# Altium schematic symbol library MyLibrary.SchLib: 320 symbols (part 5 of 7)
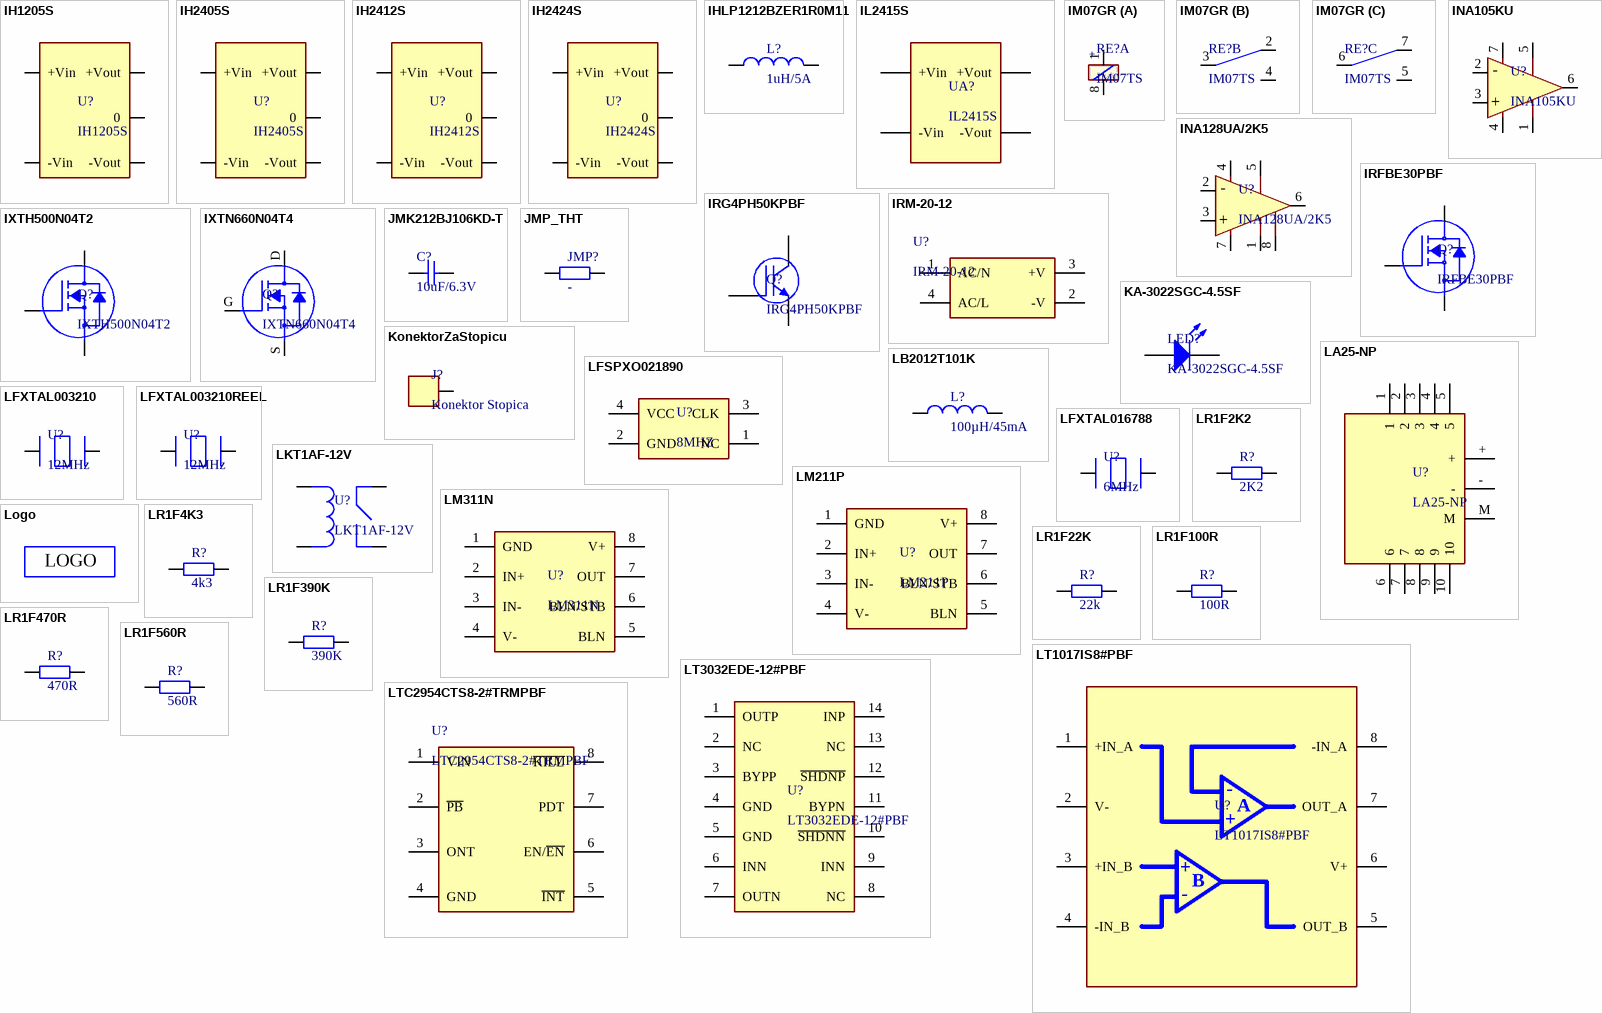
[diagram p12: symbols IH1205S to LTC2954CTS8-2#TRMPBF]

## INA105KU
designator U?
IC OP AMP INA105 SMD; Manufacturer: Texas Instruments; Bandwidth: 1MHz; Number of Channels: 1; Max Supply Voltage: 36V; Min Supply Voltage: 10V; Nominal Supply Current: 1.5mA; Dual Supply Voltage: 15V; Min Dual Supply Voltage: 5V; Max Dual Supply Voltage: 18V; Max Input Voltage: 20V; Min Input Voltage: -20V; Common Mode Rejection Ratio: 72dB; Slew Rate: 3V/µs; Input Offset Voltage (Vos): 500uV; Voltage Gain: 0dB; Input Resistance: 50kR; Output Current per Channel: 20mA; Unity Gain Bandwidth Product: 50kHz; Supplier 1: Silica; Manufacturer Part Number: INA105KU; Stock 1: 442; Pricing 1: 1=8.38, 10=7.568, 100=6.2656, 500=5.456, 1000=4.752 (USD); Case/Package: D; Number of Pins: 8; Weight: 0.002677oz; Min Operating Temperature: -40°C; Max Operating Temperature: 85°C; Packaging: Rail/Tube; Package Quantity: 75; Number of Elements: 1; Number of Circuits: 1; Quiescent Current: 1.5mA; -3db Bandwidth: 1MHz; Operating Supply Current: 1.5mA; Number of Amplifiers: 1; Termination: SMD/SMT; Length: 4.9mm; Height: 1.58mm; Width: 3.91mm; Radiation Hardening: No; Lead Free: Lead Free; REACH SVHC: No SVHC; ComponentLink1URL: https://datasheet.ciiva.com/15128/getdatasheetpartid-186912-15128450.pdf; ComponentLink1Description: Datasheet; Supplier Part Number 1: INA105KU; Type: SMD; Package: SOIC127P600X175-8N
footprint SOIC8 (SOIC, 8-Leads, Body 4,90x3,90mm, Pitch 1,27mm, IPC Medium Density)
pins: 1 REF, 2 VIN-, 3 Vin+, 4 -V, 5 SENSE, 6 Vout, 7 +V, 8 NIC hidden
text: -; +

## INA128UA/2K5
designator U?
IC OP AMP INA128 SMD; Manufacturer: Texas Instruments; Nominal Supply Current: 750uA; Number of Channels: 1; Bandwidth: 1.3MHz; Quiescent Current: 700uA; Slew Rate: 4V/µs; Min Dual Supply Voltage: 2.25V; Max Dual Supply Voltage: 18V; Dual Supply Voltage: 15V; Common Mode Rejection Ratio: 110dB; Max Supply Voltage: 36V; Min Supply Voltage: 4.5V; Input Offset Voltage (Vos): 125uV; Input Bias Current: 10nA; Input Voltage Noise Density: 8nV/sqrt Hz; Number of Elements: 3; Voltage Gain: 80dB; Input Resistance: 100GR; Supplier 1: EBV Elektronik; Manufacturer Part Number: INA128UA/2K5; Stock 1: 10466; Pricing 1: 1=7.36, 10=6.65, 100=5.5057, 500=4.7943, 1000=4.1757 (USD); Case/Package: D; Number of Pins: 8; Weight: 0.002677oz; Min Operating Temperature: -40°C; Max Operating Temperature: 125°C; Packaging: Tape and Reel; Number of Circuits: 1; Package Quantity: 2500; Gain Bandwidth Product: 1.3MHz; Number of Amplifiers: 3; Radiation Hardening: No; Lead Free: Lead Free; REACH SVHC: No SVHC; ComponentLink1URL: https://datasheet.ciiva.com/15128/getdatasheetpartid-223550-15128534.pdf; ComponentLink1Description: Datasheet; Supplier Part Number 1: INA128UA/2K5; Type: SMD; Package: SOIC127P600X175-8N
footprint SOIC8 (SOIC, 8-Leads, Body 4,90x3,90mm, Pitch 1,27mm, IPC Medium Density)
pins: 1 RG, 2 VIN-, 3 Vin+, 4 -V, 5 REF, 6 Vout, 7 +V, 8 RG
text: -; +

## IRFBE30PBF
designator Q?
MOSFET N-CH 800V 4.1A TO-220AB; Manufacturer: Vishay Siliconix; FET Type: N-Channel; Current - Continuous Drain (Id) @ 25°C: 4.1A (Tc); Drive Voltage (Max Rds On,  Min Rds On): 10V; Vgs(th) (Max) @ Id: 4V @ 250µA; Gate Charge (Qg) (Max) @ Vgs: 78nC @ 10V; Input Capacitance (Ciss) (Max) @ Vds: 1300pF @ 25V; Vgs (Max): ±20V; Power Dissipation (Max): 125W (Tc); Rds On (Max) @ Id, Vgs: 3 Ohm @ 2.5A, 10V; Type: THT; Supplier 1: Future Electronics; Manufacturer Part Number: IRFBE30PBF; RoHS: RoHS Compliant; Category: Discrete Semiconductor Products; Stock 1: 8407; Pricing 1: 1=1.67, 10=1.498, 25=1.4136, 100=1.2043, 250=1.1308, 500=0.98946, 1000=0.81983, 2500=0.76329, 5000=0.73502 (USD); Packaging: Tube; Part Status: Active; Technology: MOSFET (Metal Oxide); Drain to Source Voltage (Vdss): 800V; FET Feature: -; Operating Temperature: -55°C ~ 150°C (TJ); Mounting Type: Through Hole; Supplier Device Package: TO-220AB; Package: TO-220-3; ComponentLink1URL: http://www.vishay.com/docs/91118/91118.pdf; ComponentLink1Description: Datasheet; Supplier Part Number 1: IRFBE30PBF
footprint TO220AB-GDS
pins: D, G, S

## IRG4PH50KPBF
designator Q?
IGBT 1200V 45A 200W TO-247; Manufacturer: International Rectifier; Collector Emitter Voltage (VCEO): 1.2kV; Element Configuration: Single; Collector Emitter Saturation Voltage: 3.5V; Rise Time: 29ns; Type: THT; Supplier 1: Arrow; Manufacturer Part Number: IRG4PH50KPBF; Stock 1: 439; Pricing 1: 1=6.22970, 10=5.21610, 25=4.70970, 100=4.45050 (USD); RoHS: Yes; Mount: Through Hole; Case/Package: TO-247; Number of Pins: 3; Min Operating Temperature: -55°C; Max Operating Temperature: 150°C; Max Collector Current: 45A; Max Power Dissipation: 200W; Packaging: Rail/Tube; Power Dissipation: 200W; Collector Emitter Breakdown Voltage: 1.2kV; Package Quantity: 25; Termination: Through Hole; Voltage Rating (DC): 1.2kV; Current Rating: 45A; Radiation Hardening: No; REACH SVHC: No SVHC; Lead Free: Lead Free; ComponentLink1URL: https://datasheet.ciiva.com/1250/irg4ph50k-1250256.pdf?src-supplier=Newark; ComponentLink1Description: Datasheet; Supplier Part Number 1: IRG4PH50KPBF
footprint TO-247
pins: 1 G, 2 C, 3 E

## IRM-20-12
designator U?
POWER Modules 12V 1.8A 21.6W 85-264Vin Encap PS; Manufacturer: Mean Well; Number of Outputs: 1; Efficiency: 84%; Approvals: UL; Supplier 1: Mouser; Manufacturer Part Number: IRM-20-12; RoHS: Yes; Stock 1: 1935; Pricing 1: 1 = 9.13000, 10 = 8.70000, 20 = 8.54000, 50 = 8.40000, 100 = 8.26000, 200 = 8.12000, 500 = 7.98000, 1000 = 7.98000, 10000 = 7.98000 (USD); Mount: Through Hole; Number of Pins: 4; Weight: 2.081164oz; Min Operating Temperature: -30°C; Max Operating Temperature: 70°C; Packaging: Bulk; Package Quantity: 240; Output Power: 21.6W; Voltage - Output 1: 12V; Current - Output 1: 1.8A; Output Current: 1.8A; Max Output Power: 21.6W; Length: 53mm; Height: 24mm; Width: 28mm; Lead Free: Lead Free; ComponentLink1URL: https://datasheet.ciiva.com/24117/irm-20-spec-267992-24117345.pdf?src-supplier=Mouser; ComponentLink1Description: Datasheet; Supplier Part Number 1: 709-IRM20-12; Type: THT
footprint IRM2012
pins: 1 AC/N, 2 -V, 3 +V, 4 AC/L

## IXTH500N04T2
designator Q?
MOSFET N-CH 40V 500A TO-247; Manufacturer: IXYS; FET Type: MOSFET N-Channel, Metal Oxide; FET Feature: Standard; Rds On (Max) @ Id, Vgs: 1.6 mOhm @ 100A, 10V; Vgs(th) (Max) @ Id: 3.5V @ 250µA; Gate Charge (Qg) @ Vgs: 405nC @ 10V; Input Capacitance (Ciss) @ Vds: 25000pF @ 25V; Power - Max: 1000W; Type: THT; Supplier 1: Mouser; Manufacturer Part Number: IXTH500N04T2; Stock 1: 81; Pricing 1: 1=11.02, 10=9.96, 50=9.5, 100=8.25, 1000=6.26, 10000=6.26 (USD); Standard Package: 30; Category: Discrete Semiconductor Products; Family: FETs - Single; Series: TrenchT2™; Drain to Source Voltage (Vdss): 40V; Current - Continuous Drain (Id) @ 25° C: 500A; Mounting Type: Through Hole; Package: TO-247-3; Supplier Device Package: TO-247; Packaging: Tube; ComponentLink1URL: https://datasheet.ciiva.com/13056/ds100218ixth-tt500n04t2-76827-13056222.pdf; ComponentLink1Description: Datasheet; Supplier Part Number 1: 747-IXTH500N04T2
footprint TO-247
pins: 1 G, 2 D, 3 S

## IXTN660N04T4
designator Q?
MOSFET 40V/660A TRENCHT4 PWR SOT; Manufacturer: IXYS; Drain to Source Voltage (Vdss): 40V; Continuous Drain Current (ID): 660A; Rds On Max: 0.85mR; Input Capacitance: 44nF; Max Power Dissipation: 1.04kW; Type: THT; Supplier 1: Digi-Key; Manufacturer Part Number: IXTN660N04T4; Stock 1: 0; Pricing 1: 1=21.3, 10=19.36, 100=16.456 (USD); Mount: Chassis Mount; Case/Package: SOT-227-4; Min Operating Temperature: -55°C; Max Operating Temperature: 175°C; Packaging: Bulk; ComponentLink1Description: Datasheet; Supplier Part Number 1: IXTN660N04T4-ND; Package: SOT227
footprint SOT227 (Isotop package)
pins: D, G, S

## JMK212BJ106KD-T
designator C?, comment 10uF/6.3V
CAP 10UF 0805 6.3V; Manufacturer: Taiyo Yuden; Manufacturer Part Number: JMK212BJ106KD-T; Tolerance: 10%; Dielectric: X5R; Type: SMD; Supplier 1: Mouser; Stock 1: 61344; Pricing 1: 1=0.17000, 10=0.07400, 50=0.07400, 100=0.05000, 500=0.04000, 1000=0.03300, 4000=0.03100, 8000=0.02400, 10000=0.02400, 12000=0.02100, 24000=0.02000 (USD); RoHS: Yes; Mount: Surface Mount; Case/Package: 0805; Number of Pins: 2; Case Code (Metric): 2012; Case Code (Imperial): 0805; Min Operating Temperature: -55°C; Max Operating Temperature: 85°C; Capacitance: 10uF; Packaging: Tape and Reel; Voltage Rating (DC): 6.3V; Voltage Rating: 6.3V; Package Quantity: 1; Termination: SMD/SMT; Composition: Ceramic; Length: 2mm; Height: 0.85mm; Width: 0.049inch; Depth: 1.25mm; Thickness: 0.037inch; Radiation Hardening: No; Lead Free: Lead Free; REACH SVHC: No SVHC; ComponentLink1URL: https://datasheet.ciiva.com/15921/mlcc-all-e-15921049.pdf?src-supplier=Onlinecomponents.com; ComponentLink1Description: Datasheet; Supplier Part Number 1: 963-JMK212BJ106KD-T; Package: CAPC2012X88N
footprint C0805
footprint CAPC2012X09N (Chip Capacitor, 2-Leads, Body 2.00x1.25mm, IPC Medium Density)
pins: 1, 2 20

## JMP_THT
designator JMP?, comment -  (no BOM)
Jumper THT; .PCBChecked: BP; Category: Jumpers; Type: THT; .SCHChecked: BP
footprint JUMPER_THT_100MILS
pins: 1, 2

## KA-3022SGC-4.5SF
designator LED?
LED GREEN SMD 20 mA 2.2 V; Manufacturer: Kingbright; Lens Style: Diffused; Viewing Angle: 90°; Luminous Intensity: 20mcd; Forward Voltage: 2.2V; Wavelength: 565nm; Dominant Wavelength: 568nm; Forward Current: 20mA; Number of LEDs: 1; Supplier 1: Farnell; Manufacturer Part Number: KA-3022SGC-4.5SF; RoHS: Yes; Pricing 1: 5 = 0.39000, 10 = 0.33500, 25 = 0.32300, 50 = 0.31300, 100 = 0.30200, 150 = 0.27600, 200 = 0.25800, 250 = 0.24000 (GBP); Mount: Surface Mount; Case/Package: SMD/SMT; Number of Pins: 2; Color: Green; Min Operating Temperature: -40°C; Max Operating Temperature: 85°C; Packaging: Cut Tape; Termination: SMD/SMT; Width: 3mm; Radiation Hardening: No; REACH SVHC: No SVHC; ComponentLink1URL: https://datasheet.ciiva.com/8060/309730-8060294.pdf?src-supplier=Element14; ComponentLink1Description: Datasheet; Supplier Part Number 1: 1142615; Type: SMD; Package: SOD4522X165N
footprint LED3022X15N
pins: A, C

## KonektorZaStopicu
designator J?, comment Konektor Stopica
Type: THT
footprint KonektorZaStopicuFootprint
pins: 1

## LA25-NP
designator U?
CURRENT TRANSDUCER 25A THT; Manufacturer: LEM; Frequency: 150kHz; Number of Channels: 1; Response Time: 1us; Max Supply Current: 10mA; Polarity: Bidirectional; Accuracy: 0.5%; Linearity: 0.2%; Operating Supply Voltage: 15V; Secondary Current: 25mA; Min Supply Voltage (DC): 14.25V; Max Supply Voltage (DC): 15.75V; Supplier 1: Accilator; Manufacturer Part Number: LA25-NP; Stock 1: 1120; Pricing 1: 1=24.75, 5=23.626, 10=21.375, 25=19.6876, 50=17.4376, 100=16.875, 500=15.75 (USD); Mount: Through Hole,PCB; Package: DIP; Min Operating Temperature: -40°C; Max Operating Temperature: 85°C; Packaging: Bulk; Current Sensing: 25A; Package Quantity: 15; Nominal Supply Current: 25A; Lead Free: Lead Free; REACH SVHC: No SVHC; Flammability Rating: UL94 V-0; ComponentLink1URL: https://datasheet.ciiva.com/1309/1683365-1309928.pdf; ComponentLink1Description: Datasheet; Supplier Part Number 1: LA25-NP; Type: THT
footprint LA25-NP
pins: 1, 2, 3, 4, 5, 6, 7, 8, 9, 10, +, -, M

## LB2012T101K
designator L?, comment 100µH/45mA
IND 100UH 45MA 7 OHM SMD; Manufacturer: Taiyo Yuden; Manufacturer Part Number: LB2012T101K; Product Training Modules: EMC Applications; Catalog Drawings: LB(C,R)2012 Series Side LB(C,R)2012 Series Top; Featured Product: LB Series Inductors; EDA / CAD Models: Download from Accelerated Designs; Inductance: 100µH; Tolerance: ±10%; Shielding: Unshielded; DC Resistance (DCR): 7 Ohm; Frequency - Self Resonant: 8MHz; Frequency - Test: 796kHz; Online Catalog: LB Series; Other Names: 587-2488-2 / LB2012T101K-ND / LQ LB  2012T101K; Supplier 1: Farnell; Stock 1: 14357; Pricing 1: 5=0.157, 50=0.119, 250=0.0807, 500=0.0655, 1500=0.0471, 3000=0.0466, 15000=0.0353, 30000=0.0346 (EUR); Standard Package: 3,000; Category: Inductors, Coils, Chokes; Family: Fixed Inductors; Series: LB; Packaging: Tape & Reel (TR); Type: SMD; Current Rating: 45mA; Operating Temperature: -40°C ~ 105°C; Mounting Type: Surface Mount; Package: INDC2012X145N; Size / Dimension: 0.079" L x 0.049" W (2.00mm x 1.25mm); Height - Seated (Max): 0.057" (1.45mm); ComponentLink1URL: https://datasheet.ciiva.com/15986/667lb2012t101k-15986564.pdf; ComponentLink1Description: Datasheet; Supplier Part Number 1: 1653741
footprint L0805
pins: 1, 2

## LFSPXO021890
designator U?, comment 8MHZ
OSC 8MHZ 50PF SMD; Manufacturer: IQD FREQUENCY PRODUCTS; Manufacturer Part Number: LFSPXO021890; Frequency Nom: 8; Frequency Stability + / -: 50; Oscillator Case: SMD, 7mm x 5; Supply Voltage Nom: 3.3; Product Range: CFPS-73 Series; Oscillator Output Compatibility: HCMOS; SVHC: No SVHC (12-Jan-2017); Frequency Stability: ± 50; Supply Voltage Max: 3.63; Supply Voltage Min: 2.97; .PCBChecked: BP; Supplier 1: Farnell; RoHS: YES; Stock 1: 526; Pricing 1: 1=0.932, 50=0.729, 100=0.644, 250=0.627, 500=0.61, 1000=0.491, 5000=0.481, 10000=0.471 (GBP); Operating Temperature Min: -40; Operating Temperature Max: 85; Frequency: 8; Load Capacitance: 50; Oscillator Mounting: SMD; ComponentLink1URL: http://www.farnell.com/datasheets/1852995.pdf; ComponentLink1Description: Datasheet; Supplier Part Number 1: 2449427; Category: Oscillators; Package: DFN720X520X140-4N; Type: SMD; .SCHChecked: BP
footprint DFN4 (DFN, 4-Leads, Body 5,20x7,20mm, Pitch 4,20mm, IPC Medium Density)
pins: 1 NC, 2 GND, 3 CLK, 4 VCC

## LFXTAL003210
designator U?, comment 12MHz
CRYSTAL 12MHZ SMD; Manufacturer: IQD; Manufacturer Part Number: LFXTAL003210; Frequency: 12; Frequency tolerance: ±30 ppm; Resonant operating mode: Parallel; .PCBChecked: BP; Package: XTAL1140X380X430; Operating temperature: -10...+60 °C; ComponentLink1URL: https://datasheet.ciiva.com/46401/1658661-46401756.pdf; ComponentLink1Description: Datasheet; Package: 2-Pin HC-49-4H-SMX; Type: SMD; .SCHChecked: BP; Supplier 1: Farnell; Supplier Part Number 1: 9713344
footprint CRYSTAL
pins: 1, 2

## LFXTAL003210REEL
designator U?, comment 12MHz
CRYSTAL 12MHZ SMD; Manufacturer: IQD FREQUENCY PRODUCTS; Manufacturer Part Number: LFXTAL003210REEL; Frequency Nom: 12; Crystal Case: SMD, 11.4mm x 4.9; Frequency Stability + / -: 50; Load Capacitance: 16; Frequency Tolerance + / -: 30; Product Range: HC-49/4; SVHC: No SVHC (12-Jan-2017; .PCBChecked: BP; Supplier 1: Farnell; RoHS: YES; Pricing 1: 1000=0.0929, 5000=0.091, 10000=0.0892 (GBP); Operating Temperature Min: -10; Operating Temperature Max: 60; ComponentLink1URL: http://www.farnell.com/datasheets/2175898.pdf; ComponentLink1Description: Datasheet; Supplier Part Number 1: 2675770; Category: Crystals; Package: XTAL1140X380X430; Type: SMD; .SCHChecked: BP
footprint CRYSTAL
pins: 1, 2

## LFXTAL016788
designator U?, comment 6MHz
CRYSTAL 6.00MHZ SMD; Manufacturer: IQD FREQUENCY PRODUCTS; Manufacturer Part Number: LFXTAL016788; Frequency Nom: 6; Crystal Case: SMD, 11.4mm x 4.9; Frequency Stability + / -: 50; Load Capacitance: 30; Product Range: HC-49/4; SVHC: No SVHC (12-Jan-2017); Accuracy: ± 30; Frequency Stability: ± 50; No. of Pins: 2; .PCBChecked: BP; Supplier 1: Mouser; RoHS: YES; Stock 1: 7496; Pricing 1: 1=0.214, 5=0.211, 10=0.186, 20=0.168, 40=0.153, 100=0.127, 500=0.116, 1000=0.0929 (GBP); Frequency Tolerance + / -: 30; Operating Temperature Min: -10; Operating Temperature Max: 60; Crystal Mounting Type: SMD; Frequency: 6; Frequency Accuracy + @: 30; Frequency Accuracy - @: 30; Operating Temperature Range: -10°C to +70; Output Frequency: 6; Packaging: Cut Tape; Temperature Stability + @: 50; Temperature Stability - @: 50; Temperature Stabilty: ± 50; ComponentLink1URL: http://www.farnell.com/datasheets/2048129.pdf; ComponentLink1Description: Datasheet; Supplier Part Number 1: 449-LFXTAL016788REEL; Category: Crystals; Package: XTAL1140X380X430; Type: SMD; .SCHChecked: BP
footprint CRYSTAL
pins: 1, 2

## LKT1AF-12V
designator U?
RELAY GEN PURPOSE SPST 5A 12V; Manufacturer: Panasonic; Max Current Rating: 8A; Max Voltage Rating (AC): 277V; Coil Current: 20.8mA; Operate Time: 15ms; Release Time: 5ms; Coil Power: 250mW; Coil Resistance: 576R; Relay Type: General Purpose; Coil Type: Non-Latching; Supplier 1: Digi-Key; Manufacturer Part Number: LKT1AF-12V; RoHS: Yes; Stock 1: 3442; Pricing 1: 1 = 1.73000, 10 = 1.62000, 25 = 1.44000, 50 = 1.36800, 100 = 1.29600, 300 = 1.15200, 500 = 1.08000, 1000 = 1.00800, 5000 = 0.97200 (USD); Mount: Through Hole; Number of Pins: 4; Weight: 12g; Contact Material: Tin; Min Operating Temperature: -40°C; Max Operating Temperature: 70°C; Package Quantity: 100; Packaging: Case; Contact Current Rating: 5A; Throw Configuration: SPST; Termination: PC Pin; Coil Voltage (DC): 12V; Power Consumption: 250mW; Voltage Rating (AC): 277V; Length: 24mm; Depth: 11mm; Lead Free: Lead Free; ComponentLink1URL: https://datasheet.ciiva.com/30252/mech-eng-lkt-30252944.pdf?src-supplier=Onlinecomponents.com; ComponentLink1Description: Datasheet; Supplier Part Number 1: 255-3350-ND; Type: THT
footprint RELAY_LKT1AF
pins: 1, 2, 3, 4

## LM211P
designator U?
COMPARATOR 8-DIP; Manufacturer: Texas Instruments; Output Type: DTL, MOS, Open-Collector, Open-Emitter, RTL, TTL; Voltage - Supply, Single/Dual (±): 3.5 V ~ 30 V, ±1.75 V ~ 15 V; Voltage - Input Offset (Max): 3mV @ ±15V; Current - Input Bias (Max): 0.1µA @ ±15V; Current - Output (Typ): 50mA; Current - Quiescent (Max): 6mA; Supplier 1: RS Components; Manufacturer Part Number: LM211P; RoHS: RoHS Compliant; Category: Integrated Circuits (ICs); Stock 1: 2628; Pricing 1: 1=0.53, 10=0.45, 100=0.336, 500=0.264, 1000=0.204 (USD); Packaging: Tube; Part Status: Active; Type: THT; CMRR, PSRR (Typ): -; Propagation Delay (Max): -; Hysteresis: -; Operating Temperature: -40°C ~ 85°C; Package: 8-DIP (0.300", 7.62mm); Mounting Type: Through Hole; Supplier Device Package: 8-PDIP; ComponentLink1URL: http://www.ti.com/lit/ds/symlink/lm211.pdf; ComponentLink1Description: Datasheet; Supplier Part Number 1: 709-2043
footprint DIP8
pins: 1 GND, 2 IN+, 3 IN-, 4 V-, 5 BLN, 6 BLN/STB, 7 OUT, 8 V+

## LM311N
designator U?
VOLT COMPARATOR, DIP8, 311; Manufacturer: STMICROELECTRONICS; Comparator Type: General Purpose; No. of Comparators: 1; Response Time: 200; Supply Voltage Range: 5V to ± 15; Comparator Case Style: DIP; No. of Pins: 8; IC Output Type: DTL, MOS, RTL, TTL; SVHC: No SVHC (17-Dec-2015); Base Number: 311; Comparator Features: Voltage Comparator; Device Marking: LM311; IC Temperature Range: Commercial; Supply Current: 5.1; Supply Voltage Max: 30; Supply Voltage Min: 5V<!--FANDB--><div class="features-and-benefits-container"><div class="features-and-benefits-desc-container"><span class="features-and-benefits-container-desc">Voltage Comparator with Strobe and Low Input Currents</span></div><div class="features-and-benefits-description"><span class="features-benefits-value">The LM311N is a voltage comparator that has a low input current. It is also designed to operate over a wide range of supply voltages, from standard ±15V operational amplifier supplies down to the single +5V supply used for IC logic. Their output is compatible with RTL-DTL and TTL as well as MOS circuits and can switch voltages up to +50V at output currents as high as 50; Supplier 1: Farnell; Manufacturer Part Number: LM311N; RoHS: YES; Pricing 1: 1=0.225, 10=0.156, 100=0.127, 250=0.109, 500=0.093 (GBP); Operating Temperature Min: 0; Operating Temperature Max: 70; Packaging: Each; Product Range: -; Automotive Qualification Standard: -; MSL: -; Amplifier Case Style: DIP; Logic Function Number: 311; No.Comparators: 1; Operating Temperature Range: 0°C to +70; Output Compatibility: DTL, MOS, RTL, TTL; ComponentLink1URL: http://www.farnell.com/datasheets/125635.pdf; ComponentLink1Description: Datasheet; Supplier Part Number 1: 9755942; Type: THT; Package: DIP8
footprint DIP8
pins: 1 GND, 2 IN+, 3 IN-, 4 V-, 5 BLN, 6 BLN/STB, 7 OUT, 8 V+

## Logo
designator Logo  (value not drawn)  (no BOM)
Company logo
footprint Logo small
text: LOGO

## LR1F2K2
designator R?, comment 2K2
RES 2K2 OHM 0.6W 1% AXIAL; Manufacturer: TE Connectivity; Manufacturer Part Number: LR1F2K2; Resistance: 2.2kR; Power Rating: 600mW; Voltage Rating: 350V; Temperature Coefficient: 50ppm/°C; Number of Resistors: 1; Supplier 1: Farnell; Stock 1: 7574; Pricing 1: 10=0.0483, 100=0.0477, 500=0.0288, 1000=0.021, 2000=0.0194, 4000=0.0129, 20000=0.0111 (EUR); Mount: Axial; Package: Conformal; Min Operating Temperature: -55°C; Max Operating Temperature: 155°C; Tolerance: 1%; Composition: Thin Film; Package Quantity: 4000; Termination: Axial; Packaging: Ammo Pack; Voltage Rating (DC): 350V; Number of Terminations: 2; Diameter: 2.3mm; Length: 6.2mm; Radiation Hardening: No; REACH SVHC: No SVHC; ELV: Compliant; ComponentLink1URL: https://datasheet.ciiva.com/11823/0900766b80062c77-11823283.pdf; ComponentLink1Description: Datasheet; Supplier Part Number 1: 2330087; Type: THT
footprint RESAD1020W60L680D127B
pins: 1, 2

## LR1F4K3
designator R?, comment 4k3
RES 4K3 AXIAL 0.6W 1%; Manufacturer: TE Connectivity Passive Product; Manufacturer Part Number: LR1F4K3; Resistance (Ohms): 4.3k; Temperature Coefficient: ±50ppm/°C; Supplier 1: Elfa; RoHS: RoHS Compliant; Category: Resistors; Stock 1: 0; Pricing 1: 4000=0.01566 (USD); Packaging: Tape & Box (TB); Part Status: Active; Tolerance: ±1%; Power (Watts): 0.6W; Composition: Metal Film; Features: -; Operating Temperature: -55°C ~ 155°C; Package: Axial; Supplier Device Package: Axial; Size / Dimension: 0.091" Dia x 0.244" L (2.30mm x 6.20mm); Height - Seated (Max): -; Failure Rate: -; ComponentLink1URL: http://www.te.com/commerce/DocumentDelivery/DDEController?Action=srchrtrv&DocNm=1773241&DocType=DS&DocLang=English; ComponentLink1Description: Datasheet; Supplier Part Number 1: 60-729-95; Type: THT
footprint RESAD1020W60L680D127B
pins: 1, 2

## LR1F22K
designator R?, comment 22k
RES 22.0K 0.6W 1% AXIAL; Manufacturer: TE Connectivity Passive Product; Manufacturer Part Number: LR1F22K; Temperature Coefficient: ±50ppm/°C; Supplier 1: Elfa; RoHS: RoHS Compliant; Category: Resistors; Stock 1: 11416; Pricing 1: 1=0.14, 10=0.124, 100=0.0476, 1000=0.02093 (USD); Packaging: Cut Tape (CT); Part Status: Active; Resistance (Ohms): 22k; Tolerance: ±1%; Power (Watts): 0.6W; Composition: Metal Film; Features: -; Operating Temperature: -55°C ~ 155°C; Package: Axial; Supplier Device Package: Axial; Size / Dimension: 0.091" Dia x 0.244" L (2.30mm x 6.20mm); Height - Seated (Max): -; Failure Rate: -; ComponentLink1URL: http://www.te.com/commerce/DocumentDelivery/DDEController?Action=srchrtrv&DocNm=1773241&DocType=DS&DocLang=English; ComponentLink1Description: Datasheet; Supplier Part Number 1: 160-73-787; Type: THT
footprint RESAD1020W60L680D127B
pins: 1, 2

## LR1F100R
designator R?, comment 100R
RES 100R AXIAL 0.6W 1%; Manufacturer: TE CONNECTIVITY; Manufacturer Part Number: LR1F100R; Resistance: 100; Voltage Rating: 350; Power Rating: 600; Product Range: LR Series; Resistor Element Material: Metal Film; Temperature Coefficient: ± 50; SVHC: No SVHC (15-Jun-2015; Supplier 1: Elfa; RoHS: YES; Stock 1: 6736; Pricing 1: 10=0.053, 100=0.0294, 500=0.0254, 1000=0.0177, 2000=0.016, 4000=0.0118, 20000=0.0096, 40000=0.0094 (GBP); Package: Axial Leaded; Resistance Tolerance: ± 1%; Automotive Qualification Standard: -; ComponentLink1URL: http://www.farnell.com/cad/1723198.pdf; ComponentLink1Description: Datasheet; Supplier Part Number 1: 60-711-46; Type: THT
footprint RESAD1020W60L680D127B
pins: 1, 2

## LR1F390K
designator R?, comment 390K
RES 390K 0.6W 1% AXIAL; Manufacturer: TE Connectivity Passive Product; Manufacturer Part Number: LR1F390K; Temperature Coefficient: ±50ppm/°C; Supplier 1: Elfa; RoHS: RoHS Compliant; Category: Resistors; Stock 1: 0; Pricing 1: 4000=0.01566 (USD); Packaging: Tape & Box (TB); Part Status: Active; Resistance (Ohms): 390k; Tolerance: ±1%; Power (Watts): 0.6W; Composition: Metal Film; Features: -; Operating Temperature: -55°C ~ 155°C; Package: Axial; Supplier Device Package: Axial; Size / Dimension: 0.091" Dia x 0.244" L (2.30mm x 6.20mm); Height - Seated (Max): -; Failure Rate: -; ComponentLink1URL: http://www.te.com/commerce/DocumentDelivery/DDEController?Action=srchrtrv&DocNm=1773241&DocType=DS&DocLang=English; ComponentLink1Description: Datasheet; Supplier Part Number 1: 160-75-220; Type: THT
footprint RESAD1020W60L680D127B
pins: 1, 2

## LR1F470R
designator R?, comment 470R
RES 470R 0.6W 1% AXIAL; Manufacturer: TE Connectivity Passive Product; Manufacturer Part Number: LR1F470R; Resistance (Ohms): 470; Temperature Coefficient: ±50ppm/°C; Supplier 1: Elfa; RoHS: RoHS Compliant; Category: Resistors; Stock 1: 3829; Pricing 1: 1=0.14, 10=0.124, 100=0.0476, 1000=0.02093 (USD); Packaging: Cut Tape (CT); Part Status: Active; Tolerance: ±1%; Power (Watts): 0.6W; Composition: Metal Film; Features: -; Operating Temperature: -55°C ~ 155°C; Package: Axial; Supplier Device Package: Axial; Size / Dimension: 0.091" Dia x 0.244" L (2.30mm x 6.20mm); Height - Seated (Max): -; Failure Rate: -; ComponentLink1URL: http://www.te.com/commerce/DocumentDelivery/DDEController?Action=srchrtrv&DocNm=1773241&DocType=DS&DocLang=English; ComponentLink1Description: Datasheet; Supplier Part Number 1: 60-719-06; Type: THT
footprint RESAD1020W60L680D127B
pins: 1, 2

## LR1F560R
designator R?, comment 560R
RES 560 OHM 0.6W 1% AXIAL; Manufacturer: TE Connectivity Passive Product; Manufacturer Part Number: LR1F560R; Resistance (Ohms): 560; Temperature Coefficient: ±50ppm/°C; Supplier 1: Elfa; RoHS: RoHS Compliant; Category: Resistors; Stock 1: 0; Pricing 1: 4000=0.01566 (USD); Packaging: Tape & Box (TB); Part Status: Active; Tolerance: ±1%; Power (Watts): 0.6W; Composition: Metal Film; Features: -; Operating Temperature: -55°C ~ 155°C; Package: Axial; Supplier Device Package: Axial; Size / Dimension: 0.091" Dia x 0.244" L (2.30mm x 6.20mm); Height - Seated (Max): -; Failure Rate: -; ComponentLink1URL: http://www.te.com/commerce/DocumentDelivery/DDEController?Action=srchrtrv&DocNm=1773241&DocType=DS&DocLang=English; ComponentLink1Description: Datasheet; Supplier Part Number 1: 160-71-997; Type: THT
footprint RESAD1020W60L680D127B
pins: 1, 2

## LT1017IS8#PBF
designator U?
IC COMPARATOR MICRPWR DUAL 8SOIC; Manufacturer: Linear Technology; Output Type: Pull Up; Voltage - Supply, Single/Dual (±): 1.1 V ~ 40 V, ±0.55 V ~ 20 V; Voltage - Input Offset (Max): 1mV @ ±20V; Current - Input Bias (Max): 0.015µA @ ±20V; Current - Output (Typ): 65mA @ 4.5V; Current - Quiescent (Max): 60µA; CMRR, PSRR (Typ): 115dB CMRR, 110dB PSRR; Propagation Delay (Max): 22µs; Manufacturer Part Number: LT1017IS8#PBF; RoHS: RoHS Compliant; Category: Integrated Circuits (ICs); Packaging: Tube; Part Status: Active; Type: SMD; Hysteresis: -; Operating Temperature: -40°C ~ 85°C; Package: SOIC127P600X175-8N; Mounting Type: Surface Mount; Supplier Device Package: 8-SOIC; ComponentLink1URL: http://www.linear.com/docs/1268; ComponentLink1Description: Datasheet; Supplier 1: Farnell; Supplier Part Number 1: 1663330
footprint SOIC8 (SOIC, 8-Leads, Body 4,90x3,90mm, Pitch 1,27mm, IPC Medium Density)
pins: 1 +IN_A, 2 V-, 3 +IN_B, 4 -IN_B, 5 OUT_B, 6 V+, 7 OUT_A, 8 -IN_A
text: A; +; B

## LT3032EDE-12#PBF
designator U?
LDO IC REG LINEAR +-12V 14DFN; Manufacturer: Analog Devices / Linear Technology; Output Current: 150mA; Dropout Voltage: 300mV; Number of Outputs: 2; Output Voltage: 12V; Max Input Voltage: 20V; Min Current Limit: 170mA; Min Input Voltage: 2.3V; Polarity: Positive,Negative; Operating Supply Current: 25uA; Power Supply Rejection Ratio (PSRR): 68dB; Supplier 1: Mouser; Manufacturer Part Number: LT3032EDE-12#PBF; RoHS: Yes; Category: Voltage Regulators - Linear; Stock 1: 1461; Pricing 1: 1=5.32000, 25=3.53000, 100=2.92000, 250=2.77000, 500=2.71000, 1000=2.60000 (USD); Case/Package: DFN; Number of Pins: 14; Min Operating Temperature: -40°C; Max Operating Temperature: 125°C; Package Quantity: 91; Packaging: Rail/Tube; Number of Regulators: 2; Max Output Voltage: 12V; Min Output Voltage: 12V; Lead Free: Lead Free; ComponentLink1URL: https://datasheet.ciiva.com/2058/29070-2058780.pdf?src-supplier=Digi-Key; ComponentLink1Description: Datasheet; Supplier Part Number 1: 584-LT3032EDE-12#PBF; Type: SMD; Package: *
footprint DFN14
pins: 1 OUTP, 2 NC, 3 BYPP, 4 GND, 5 GND, 6 INN, 7 OUTN, 8 NC, 9 INN, 10 ~{SHDNN}, 11 BYPN, 12 ~{SHDNP}, 13 NC, 14 INP

## LTC2954CTS8-2#TRMPBF
designator U?
IC Controller 2.7V to 26.4V Automotive 8-Pin TSOT-23 T/R; Manufacturer: Analog Devices / Linear Technology; Operating Supply Current: 6uA; Number of Outputs: 2; Max Output Voltage: 33V; Supplier 1: RSComponents; Manufacturer Part Number: LTC2954CTS8-2#TRMPBF; RoHS: Yes; Stock 1: 690; Case/Package: TSOT; Number of Pins: 8; Min Operating Temperature: 0°C; Max Operating Temperature: 70°C; Packaging: Tape and Reel; Package Quantity: 500; Max Input Voltage: 26.4V; Max Supply Voltage: 26.4V; Min Supply Voltage: 2.7V; Min Input Voltage: 2.7V; Termination: SMD/SMT; Output Voltage: 33V; Radiation Hardening: No; REACH SVHC: No SVHC; Lead Free: Lead Free; ComponentLink1URL: https://datasheet.ciiva.com/1967/16598-1967280.pdf?src-supplier=Digi-Key; ComponentLink1Description: Datasheet; Supplier Part Number 1: 8226821; Package: SOT65P280X100-8N; Type: SMD
footprint TSOT23-8
pins: 1 VIN, 2 ~{PB}, 3 ONT, 4 GND, 5 ~{INT}, 6 EN/~{EN}, 7 PDT, 8 ~{KILL}

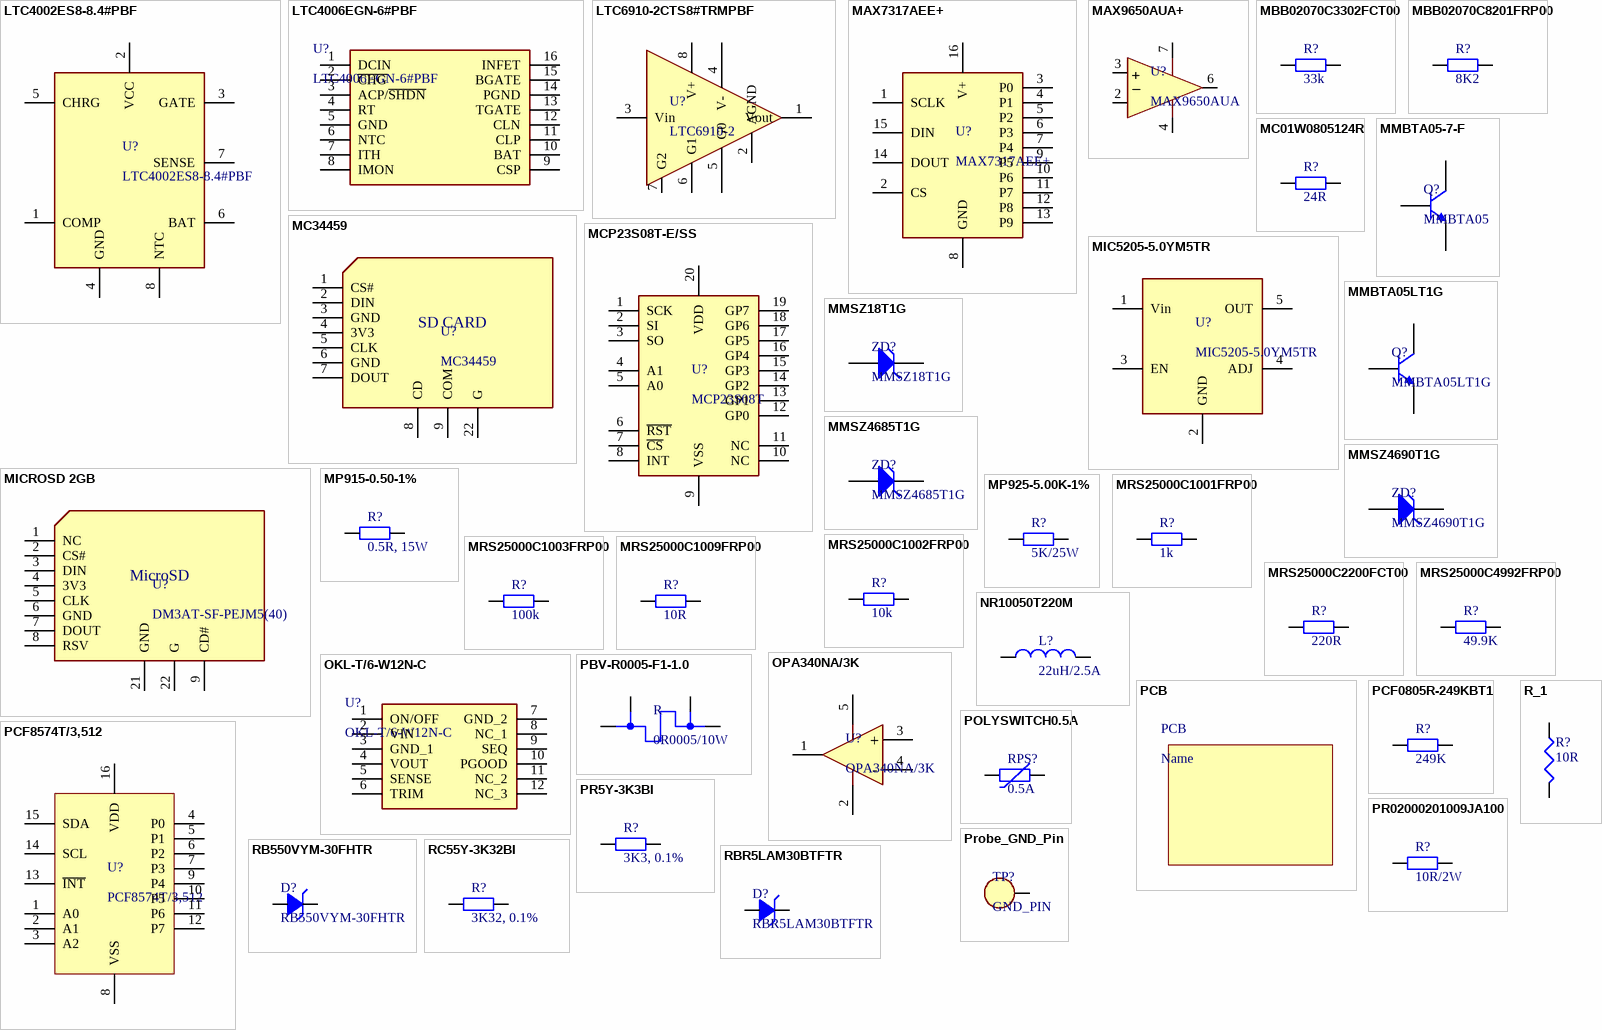
[diagram p6: symbols LTC4002ES8-8.4#PBF to RC55Y-3K32BI]

## LTC4002ES8-8.4#PBF
designator U?
IC Controller Battery Charger Li-Ion 8.4V 8-Pin SOIC N; Manufacturer: Analog Devices / Linear Technology; Number of Cells: 2; Max Supply Voltage: 22V; Min Supply Voltage: 8.9V; Max Output Current: 95uA; Max Output Voltage: 8.484V; Min Output Voltage: 8.316V; Max Charge Current: 1.5A; Supplier 1: Farnell; Manufacturer Part Number: LTC4002ES8-8.4#PBF; RoHS: Yes; Pricing 1: 1 = 3.30000, 10 = 2.94000, 25 = 2.05000, 50 = 1.94000, 100 = 1.82000, 250 = 1.69000, 500 = 1.66000, 1000 = 1.62000 (GBP); Case/Package: SOIC; Number of Pins: 8; Min Operating Temperature: -40°C; Max Operating Temperature: 85°C; Package Quantity: 100; Packaging: Rail/Tube; Output Voltage: 8.4V; Max Input Voltage: 22V; Min Input Voltage: 8.9V; Length: 5mm; Height: 1.498mm; Width: 3.988mm; Radiation Hardening: No; REACH SVHC: No SVHC; Lead Free: Lead Free; ComponentLink1URL: https://datasheet.ciiva.com/1496/downloaddocument-donavid-h0-c1-c1003-c1037-c1078-c1089-p2493-d1021-1496802.pdf?src-supplier=Farnell; ComponentLink1Description: Datasheet; Supplier Part Number 1: 1556268; Type: SMD; Package: SOIC127P600X175-8N
footprint SOIC8 (SOIC, 8-Leads, Body 4,90x3,90mm, Pitch 1,27mm, IPC Medium Density)
pins: 1 COMP, 2 VCC, 3 GATE, 4 GND, 5 CHRG, 6 BAT, 7 SENSE, 8 NTC

## LTC4006EGN-6#PBF
designator U?
IC CHARGER BATTERY 4A 16-SSOP; Manufacturer: Analog Devices / Linear Technology; Min Supply Voltage: 6V; Max Supply Voltage: 28V; Output Voltage: 8.4V; Number of Cells: 4; Supplier 1: RSComponents; Manufacturer Part Number: LTC4006EGN-6#PBF; RoHS: Yes; Case/Package: SSOP; Number of Pins: 16; Min Operating Temperature: -40°C; Max Operating Temperature: 85°C; Output Current: 4A; Package Quantity: 100; Packaging: Rail/Tube; Max Input Voltage: 28V; Min Input Voltage: 6V; Max Output Current: 4A; Max Output Voltage: 8.4V; Max Charge Current: 4A; Length: 4.98mm; Height: 1.501mm; Width: 3.988mm; Radiation Hardening: No; REACH SVHC: No SVHC; Lead Free: Lead Free; ComponentLink1URL: https://datasheet.ciiva.com/15114/getdatasheetpartid-82287-15114439.pdf?src-supplier=Verical; ComponentLink1Description: Datasheet; Supplier Part Number 1: 7619538P; Type: SMD; Package: SOP635P600X175-16N
footprint SSOP16
pins: 1 DCIN, 2 ~{CHG}, 3 ACP/~{SHDN}, 4 RT, 5 GND, 6 NTC, 7 ITH, 8 IMON, 9 CSP, 10 BAT, 11 CLP, 12 CLN, 13 TGATE, 14 PGND, 15 BGATE, 16 INFET
1 alternate drawing of the same symbol

## LTC6910-2CTS8#TRMPBF
designator U?, comment LTC6910-2
PGA INVERTING SOT-23; Manufacturer: Analog Devices / Linear Technology; Manufacturer Part Number: LTC6910-2CTS8#TRMPBF; Bandwidth: 13MHz; Number of Channels: 1; Input Offset Voltage (Vos): 3mV; Operating Supply Current: 3.5mA; Output Current per Channel: 35mA; Input Resistance: 100MR; Common Mode Rejection Ratio: 55dB; Min Dual Supply Voltage: 1.35V; Max Dual Supply Voltage: 5.25V; Voltage Gain: 36dB; Power Supply Rejection Ratio (PSRR): 60dB; Nominal Gain Bandwidth Product: 11MHz; Slew Rate: 16V/µs; Max Supply Voltage: 11V; Min Supply Voltage: 2.7V; Supplier 1: Digi-Key; RoHS: Yes; Category: Amplifiers - Op Amps, Buffer, Instrumentation; Stock 1: 1267; Pricing 1: 1=2.78000, 25=2.06000, 100=1.53000, 250=1.46880 (USD); Case/Package: TSOT; Number of Pins: 8; Min Operating Temperature: -40°C; Max Operating Temperature: 70°C; Number of Circuits: 1; Gain Bandwidth Product: 13MHz; Package Quantity: 1; Unity Gain Bandwidth Product: 13MHz; Number of Amplifiers: 1; Number of Elements: 1; Termination: SMD/SMT; Packaging: Tape and Reel; Length: 2.9mm; Height: 0.9mm; Width: 1.75mm; Radiation Hardening: No; REACH SVHC: No SVHC; Lead Free: Lead Free; ComponentLink1URL: https://datasheet.ciiva.com/25629/0900766b810edae0-25629536.pdf?src-supplier=RSComponents; ComponentLink1Description: Datasheet; Supplier Part Number 1: LTC6910-2CTS8#TRMPBFCT-ND
pins: 1 Vout, 2 AGND, 3 Vin, 4 V-, 5 G0, 6 G1, 7 G2, 8 V+

## MAX7317AEE+
designator U?
IC I/O EXPANDER SPI 10B 16QSOP; Manufacturer: Maxim; Number of I/Os: 10; Interface: SPI,Serial; Max Supply Voltage: 3.6V; Min Supply Voltage: 2.25V; Max Power Dissipation: 667mW; Operating Supply Current: 385uA; Supplier 1: Mouser; Manufacturer Part Number: MAX7317AEE+; Stock 1: 385; Pricing 1: 1=3.82000, 10=3.42000, 25=3.24000, 50=2.95000, 100=2.66000, 250=2.39000 (USD); RoHS: Yes; Mount: Surface Mount; Case/Package: QSOP; Number of Pins: 16; Weight: 0.010159oz; Min Operating Temperature: -40°C; Max Operating Temperature: 125°C; Package Quantity: 100; Packaging: Rail/Tube; Length: 4.98mm; Height: 1.55mm; Width: 3.99mm; REACH SVHC: Unknown; ComponentLink1URL: https://datasheet.ciiva.com/1780/max7317-1780522.pdf?src-supplier=Digi-Key; ComponentLink1Description: Datasheet; Supplier Part Number 1: 700-MAX7317AEE; Type: SMD
footprint QSOP16
pins: 1 SCLK, 2 CS, 3 P0, 4 P1, 5 P2, 6 P3, 7 P4, 8 GND, 9 P5, 10 P6, 11 P7, 12 P8, 13 P9, 14 DOUT, 15 DIN, 16 V+

## MAX9650AUA+
designator U?, comment MAX9650AUA
IC OP AMP VCOM DRIVE 8UMAX; Manufacturer: Maxim; Manufacturer Part Number: MAX9650AUA+; Product Training Modules: Lead (SnPb) Finish for COTS / Long-Term Supply Program; Output Type: Rail-to-Rail; Number of Circuits: 1; -3db Bandwidth: 35MHz; Slew Rate: 40 V/µs; Current - Supply: 3.7mA; Current - Output / Channel: 1.3A; Voltage - Supply, Single/Dual (±): 9 V ~ 20 V, ±4.5 V ~ 10 V; Dynamic Catalog: TFT-LCD; Supplier 1: Mouser; Stock 1: 130; Pricing 1: 1=1.48, 10=1.41, 50=1.01, 100=1.01, 1000=0.952, 10000=0.952 (USD); Standard Package: 50; Category: Integrated Circuits (ICs); Family: Linear - Amplifiers - Video Amps and Modules; Series: -; Applications: TFT-LCD Panels: VCOM Driver; Mounting Type: Surface Mount; Package: SOP65P510X110-8N; Supplier Device Package: 8-uMax-EP; Packaging: Tube; ComponentLink1URL: https://datasheet.ciiva.com/14456/max9650-max9651-14456042.pdf; ComponentLink1Description: Datasheet; Supplier Part Number 1: 700-MAX9650AUA; Type: SMD
footprint MS8E
pins: 2 -VCC, 3 +IN, 4, 6 Out, 7 +
text: _

## MBB02070C3302FCT00
designator R?, comment 33k
RES 33K 0.6W 1% AXIAL; Manufacturer: Vishay BCcomponents; Manufacturer Part Number: MBB02070C3302FCT00; Resistance: 33kR; Temperature Coefficient: 50ppm/°C; Power Rating: 600mW; Supplier 1: Elfa; Stock 1: 46205; Pricing 1: 1=0.3, 10=0.254, 100=0.0993, 1000=0.0416, 2500=0.0381 (USD); Mount: Through Hole; Case/Package: Conformal; Contact Plating: Tin; Min Operating Temperature: -55°C; Max Operating Temperature: 155°C; Tolerance: 1%; Composition: Metal Film,Thin Film; Packaging: Tape and Reel; Number of Terminations: 2; Termination: Axial; Military Standard: Not; Max Power Dissipation: 600mW; Diameter: 2.5mm; Length: 6.5mm; Radiation Hardening: No; Lead Free: Lead Free; ComponentLink1URL: https://datasheet.ciiva.com/11823/0900766b8059e7d0-11823788.pdf; ComponentLink1Description: Datasheet; Supplier Part Number 1: 160-73-993; Type: THT; Package: Axial
footprint RESAD1020W60L680D127B
pins: 1, 2

## MBB02070C8201FRP00
designator R?, comment 8K2
RES 8.2K OHM 0.6W 1% AXIAL; Manufacturer: Vishay BC Components; Manufacturer Part Number: MBB02070C8201FRP00; Temperature Coefficient: ±50ppm/°C; Supplier 1: Elfa; RoHS: RoHS Compliant; Category: Resistors; Stock 1: 0; Pricing 1: 5000=0.03 (USD); Packaging: Tape & Reel (TR); Part Status: Active; Resistance (Ohms): 8.2k; Tolerance: ±1%; Power (Watts): 0.6W; Composition: Thin Film; Features: Automotive AEC-Q200; Operating Temperature: -55°C ~ 155°C; Package: Axial; Supplier Device Package: Axial; Size / Dimension: 0.098" Dia x 0.256" L (2.50mm x 6.50mm); Height - Seated (Max): -; Failure Rate: -; ComponentLink1URL: http://www.vishay.com/docs/28766/mbxsma.pdf; ComponentLink1Description: Datasheet; Supplier Part Number 1: 60-733-24; Type: THT
footprint RESAD1020W60L680D127B
pins: 1, 2

## MC01W0805124R
designator R?, comment 24R
RES 24R 0805 0.1W; Manufacturer: MULTICOMP; Manufacturer Part Number: MC01W0805124R; Resistance: 24; Voltage Rating: 150; Resistor Case Style: 0805 [2012 Metric]; Power Rating: 100; Resistance Tolerance: ± 1%; Product Range: MC Series; Resistor Element Material: Thick Film; Temperature Coefficient: ± 200; SVHC: No SVHC (12-Jan-2017); External Depth: 0.55; External Length / Height: 2; External Width: 1.25; Reel Quantity: 5000; Resistor Mounting: Surface Mount Device; Temperature Coeff. +: 200; Tolerance +: 1%; Voltage Rating V DC: 150V<!--FANDB--><div class="features-and-benefits-container"><div class="features-and-benefits-description"><span class="features-benefits-value">The Multicomp MC series current sense resistors are thick film chip resistors. The resistance range includes E96 and E24 decade values from 1ohm to 10Mohm.</span></div><div class="features-and-benefits-list"><ul class="features-and-benefits-list-list"><li class="features-and-benefits-list-item">EIA 0402, 0603, 0805, 1206 chip sizes available</li><li class="features-and-benefits-list-item">Small size and low weight</li><li class="features-and-benefits-list-item">Suitable for both wave and reflow soldering</li><li class="features-and-benefits-list-item">Reduction of assembly costs</li><li class="features-and-benefits-list-item">Maximum working voltage of 50V(0402, 0603), 150V(0805), 200V(1206)</li><li class="features-and-benefits-list-item">Available in ±1%, ±2% and ±5% tolerance</li><li class="features-and-benefits-list-item">Power rating of 62.5mW, 100mW and 125mW</li><li class="features-and-benefits-list-item">±400ppm/°C(1ohm to 10ohm), ±200ppm/°C(11ohm to 100ohm), ±100; .PCBChecked: BP; Supplier 1: Farnell; RoHS: Y-EX; Stock 1: 38; Pricing 1: 10=0.0019, 100=0.0016, 500=0.0014, 1000=0.0013, 2500=0.0011 (GBP); Packaging: Cut Tape; Automotive Qualification Standard: -; No. of Pins: 2; Operating Temperature Max: 155; Operating Temperature Min: -55; Operating Temperature Range: -55°C to +155; Tape Width: 8; Temperature Coeff. -: 200; Tolerance -: 1%; ComponentLink1URL: http://www.farnell.com/datasheets/1729047.pdf; ComponentLink1Description: Datasheet; Supplier Part Number 1: 115-2305; Category: Resistors; Package: RESC2012X60N; Type: SMD; .SCHChecked: BP
footprint R0805
footprint RESC2012X05N (Chip Resistor, 2-Leads, Body 2.05x1.25mm, IPC Medium Density)
pins: 1, 2

## MC34459
designator U?  (no BOM)
SD CONNECTOR METAL COVER SMT; Manufacturer: MULTICOMP; Connector Type: Memory Socket; No. of Contacts: 9; SVHC: No SVHC (20-Jun-2016); Contact Resistance: 40; Contact Termination: Surface Mount Right Angle; Contact Termination Type: Surface Mount; Current Rating: 0.5; Insulation Resistance: 1000; No. of Mating Cycles: 10.000; Pitch Spacing: 2.5; Voltage Rating V AC: 250V<!--FANDB--><div class="features-and-benefits-container"><div class="features-and-benefits-description"><span class="features-benefits-value">The MC34459 from Multicomp is a SD memory card connector. Smooth extraction function by push-push mechanism.</span></div><div class="features-and-benefits-list"><ul class="features-and-benefits-list-list"><li class="features-and-benefits-list-item">Right angle surface mount terminal</li><li class="features-and-benefits-list-item">9 contacts</li><li class="features-and-benefits-list-item">Gold plating</li><li class="features-and-benefits-list-item">Write protect and card detect indication</li></ul></div><div class="features-and-benefits-applications"><ul class="features-and-benefits-value"><li class="features-and-benefits-list-item">Portable Devices</li></ul></div></div>; .PCBChecked: BP; Supplier 1: Farnell; Manufacturer Part Number: MC34459; RoHS: YES; Stock 1: 32828; Pricing 1: 5=1.89, 10=1.37, 50=0.902, 100=0.817, 250=0.703, 500=0.65, 1000=0.617 (GBP); Product Range: -; Contact Material: Phosphor Bronze; Contact Plating: Gold Plated Contacts; Operating Temperature Max: 85; Operating Temperature Min: -25; ComponentLink1URL: http://www.farnell.com/cad/1684691.pdf; ComponentLink1Description: Datasheet; Supplier Part Number 1: 9186158; Category: Connectors; Package: SD METAL COVER SMD; Type: SMD; .SCHChecked: BP
footprint SD CARD
pins: 1 CS# "Chip select", 2 DIN, 3 GND, 4 3V3, 5 CLK, 6 GND, 7 DOUT, 8 CD "Card detect", 9 COM, 22 G "Connected to ground"
text: SD CARD

## MCP23S08T-E/SS
designator U?, comment MCP23S08T
PORT EXPANDER SPI SSOP-20; Manufacturer: Microchip; Manufacturer Part Number: MCP23S08T-E/SS; Supplier 1: Digi-Key; Stock 1: 3073; Pricing 1: 1=1.15000, 25=0.96000, 100=0.87000 (USD); RoHS: Yes; ComponentLink1URL: https://datasheet.ciiva.com/1780/21919e-1780725.pdf?src-supplier=Digi-Key; ComponentLink1Description: Datasheet; Supplier Part Number 1: MCP23S08T-E/SSCT-ND; Type: SMD
footprint SSOP20 (SOP, 20-Leads, Body 7.25x5.30mm, Pitch 0.65mm, IPC High Density)
pins: 1 SCK, 2 SI, 3 SO, 4 A1, 5 A0, 6 ~{RST}, 7 ~{CS}, 8 INT, 9 VSS, 10 NC, 11 NC, 12 GP0, 13 GP1, 14 GP2, 15 GP3, 16 GP4, 17 GP5, 18 GP6, 19 GP7, 20 VDD

## MIC5205-5.0YM5TR
designator U?
LDO Pos 5V 0.15A 5-Pin SOT-23 T/R; Manufacturer: Microchip Micrel; Dropout Voltage: 165mV; Output Current: 150mA; Number of Regulators: 1; Min Input Voltage: 2.5V; Max Input Voltage: 16V; Polarity: Positive; Accuracy: 1%; Power Supply Rejection Ratio (PSRR): 75dB; Supplier 1: Mouser; Manufacturer Part Number: MIC5205-5.0YM5TR; Stock 1: 28609; Pricing 1: 1=0.48, 10=0.44, 50=0.35, 100=0.318, 1000=0.318, 10000=0.318 (USD); Mount: Surface Mount; Case/Package: SOT-23; Number of Pins: 5; Min Operating Temperature: -40°C; Max Operating Temperature: 125°C; Packaging: Tape and Reel; Output Voltage: 5V; Package Quantity: 1; Max Output Current: 150mA; Number of Outputs: 1; Max Supply Voltage: 16V; Min Supply Voltage: 2.5V; Nominal Output Voltage: 5V; Min Output Voltage: 5V; Max Output Voltage: 5V; Termination: SMD/SMT; Output Voltage Accuracy: 1%; Current Rating: 150mA; Length: 2.9mm; Height: 1.1mm; Width: 1.6mm; Radiation Hardening: No; Lead Free: Lead Free; REACH SVHC: No SVHC; ComponentLink1URL: https://datasheet.ciiva.com/13026/mic5205-13026076.pdf; ComponentLink1Description: Datasheet; Supplier Part Number 1: 998-MIC5205-5.0YM5TR; Type: SMD; Package: STO95P300X130N
footprint SOT23-5 (SOT23, 5-Leads, Body 2.90x2.80mm, Pitch 0.95mm, IPC Medium Density)
pins: 1 Vin, 2 GND, 3 EN, 4 ADJ, 5 OUT

## MICROSD 2GB
designator U?, comment DM3AT-SF-PEJM5(40)
MICRO SD CONNECTOR PUSH PUSH SMT; Manufacturer: HIROSE(HRS); Product Range: DM3 Series; Connector Type: Memory Socket; No. of Contacts: 8; Gender: Receptacle; Contact Termination Type: Surface Mount; Contact Resistance: 100; Contact Termination: Surface Mount Right Angle; Current Rating: 0.5; Insulation Resistance: 1000; Voltage Rating V AC: 125V<!--FANDB--><div class="features-and-benefits-container"><div class="features-and-benefits-description"><span class="features-benefits-value">The DM3AT-SF-PEJM5(40) is a surface mount microSD Card Connector with small external dimensions and a strong rigid structure. The DM3 series microSD card connector have reverse card insertion protection and a N/O card detection switch.</span></div><div class="features-and-benefits-list"><ul class="features-and-benefits-list-list"><li class="features-and-benefits-list-item">Small External Dimensions</li><li class="features-and-benefits-list-item">Strong and Rigid Construction</li><li class="features-and-benefits-list-item">Reverse Card Insertion Protection</li><li class="features-and-benefits-list-item">Normally Open Card Detection Switch</li><li class="features-and-benefits-list-item">Effective Ground and Shield Configuration</li><li class="features-and-benefits-list-item">Card Fall-out Prevention</li><li class="features-and-benefits-list-item">Exposed Termination Leads</li></ul></div><div class="features-and-benefits-warnings"><span class="features-benefits-value">Do not immerse or clean the entire connector with cleaning solutions as this may affect proper operation of the ejection mechanism and electrical performance of the connector.</span></div><div class="features-and-benefits-applications"><ul class="features-and-benefits-value"><li class="features-and-benefits-list-item">Industrial</li></ul></div></div>; .PCBChecked: BP; Supplier 1: Farnell; Manufacturer Part Number: DM3AT-SF-PEJM5(40); RoHS: YES; Stock 1: 4543; Pricing 1: 1=1.88, 10=1.5, 100=1.31, 250=1.12, 500=1.08, 1000=1.05, 2500=1.01 (GBP); Pitch Spacing: -; No. of Rows: -; Row Pitch: -; Contact Plating: Gold Plated Contacts; Contact Material: Copper; Flammability Rating: UL94V-0; Operating Temperature Max: 85; Operating Temperature Min: -25; Packaging: Cut Tape; Termination Method: Solder; ComponentLink1URL: http://www.farnell.com/datasheets/1697167.pdf; ComponentLink1Description: Datasheet; Supplier Part Number 1: 1764374; Category: Connectors; Package: AD630K/AD_3; Type: SMD; .SCHChecked: BP
footprint USD CARD
pins: 1 NC "Not connected", 2 CS#, 3 DIN, 4 3V3, 5 CLK, 6 GND, 7 DOUT, 8 RSV "Reserved in SPI mode; Not connected", 9 CD#, 10 NC hidden, 21 GND, 22 G, 23 NC hidden, 24 NC hidden
text: MicroSD

## MMBTA05-7-F
designator Q?, comment MMBTA05
NPN 60V 0.5A SOT23-3; Manufacturer: Diodes; Manufacturer Part Number: MMBTA05-7-F; Collector Current @ 100C: 500 mA; Power Dissipation-Tot: 300 mW; DC Current Gain-Min: 100; Type: SMD; Supplier 1: RS Components; Stock 1: 94394; Pricing 1: 1=0.3, 10=0.244, 100=0.1292, 500=0.085, 1000=0.0578 (USD); CE Voltage-Max: 60 V; Polarity: NPN; ComponentLink1URL: https://datasheet.ciiva.com/15138/getdatasheetpartid-33651-15138588.pdf; ComponentLink1Description: Datasheet; Supplier Part Number 1: 145-3538; Package: SOT95P245X110-3N
footprint SOT23_BEC
pins: B, C, E

## MMBTA05LT1G
designator Q?
NPN 60V 0.5A SOT23-3; Manufacturer: ON Semiconductor; Max Power Dissipation: 225mW; Max Collector Current: 500mA; Transition Frequency: 100MHz; hFE Min: 100; Number of Elements: 1; Emitter Base Voltage (VEBO): 4V; Collector Emitter Saturation Voltage: 250mV; Power Dissipation: 300mW; Element Configuration: Single; Current Rating: 96.1A; Type: SMD; Supplier 1: Future Electronics; Manufacturer Part Number: MMBTA05LT1G; RoHS: Yes; Stock 1: 378000; Pricing 1: 3000 = 0.02800, 12000 = 0.02200, 45000 = 0.02100, 75000 = 0.02000 (USD); Case/Package: SOT-23-3; Number of Pins: 3; Contact Plating: Tin; Min Operating Temperature: -55°C; Max Operating Temperature: 150°C; Collector Emitter Voltage (VCEO): 60V; Packaging: Tape and Reel; Collector Emitter Breakdown Voltage: 60V; Package Quantity: 1; Frequency: 100MHz; Max Breakdown Voltage: 60V; Polarity: NPN; Collector Base Voltage (VCBO): 60V; Max Frequency: 100MHz; Gain Bandwidth Product: 100MHz; Voltage Rating (DC): 60V; Length: 3.04mm; Height: 1.11mm; Width: 2.64mm; Radiation Hardening: No; Lead Free: Lead Free; REACH SVHC: No SVHC; ComponentLink1URL: https://datasheet.ciiva.com/15138/getdatasheetpartid-33652-15138589.pdf?src-supplier=Verical; ComponentLink1Description: Datasheet; Supplier Part Number 1: MMBTA05LT1G-REEL; Package: SOT95P245X110-3N
footprint SOT23-3 (SOT23, 3-Leads, Body 2.92x2.35mm, Pitch 0.95mm, IPC Medium Density)
pins: 1, 2, 3

## MMSZ18T1G
designator ZD?
ZENER 18V 500MW SOD123; Manufacturer: ON Semiconductor; PCN Design/Specification: Copper Wire 08/Jun/2009; PCN Assembly/Origin: SOD-123 Package Assembly Site Transfer 29/Aug/2014; Tolerance: ±5%; Impedance (Max) (Zzt): 45 Ohm; Current - Reverse Leakage @ Vr: 50nA @ 12.6V; Voltage - Forward (Vf) (Max) @ If: 900mV @ 10mA; Online Catalog: MMSZ Series; Other Names: MMSZ18T1GOSDKR; Supplier 1: Mouser; Manufacturer Part Number: MMSZ18T1G; Stock 1: 0; Pricing 1: 1=0.23, 10=0.156, 50=0.156, 100=0.065, 1000=0.045, 10000=0.03 (USD); Standard Package: 1; Category: Discrete Semiconductor Products; Family: Diodes - Zener - Single; Packaging: Digi-Reel®; Voltage - Zener (Nom) (Vz): 18V; Power - Max: 500mW; Operating Temperature: -55°C ~ 150°C; Mounting Type: Surface Mount; Package: SOD3716X135N; Supplier Device Package: SOD-123; ComponentLink1URL: https://datasheet.ciiva.com/15142/getdatasheetpartid-90501-15142555.pdf; ComponentLink1Description: Datasheet; Supplier Part Number 1: 863-MMSZ18T1G; Type: SMD
footprint SOD123 (SODFL, 2-Leads, Body 1,50x5,20mm, IPC Medium Density)
pins: A, C